# EAGLE library part 101-00271-82 (library Connectors)
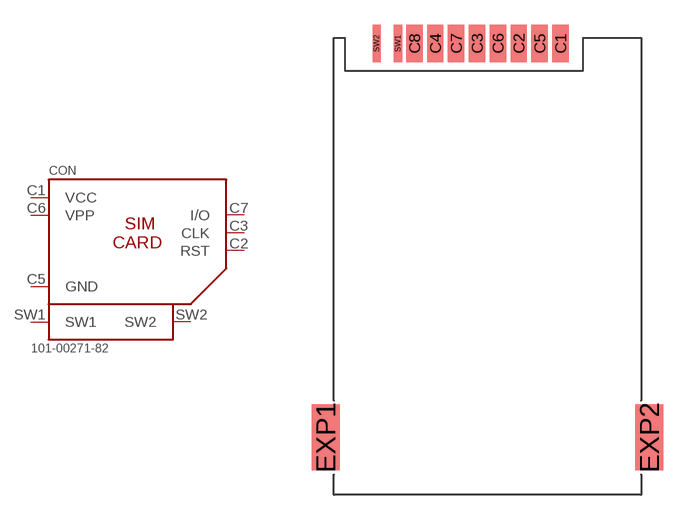
[diagram p0: symbol with the pads of 101-00271-82; footprint 101-00271-82]

Designator prefix CON

## 101-00271-82 (MN: Amphenol Commercial Products; MN_CODE: 101-00271-82; ORDER: DIGIKEY; ORDER_CODE: 101-00271-82-1-ND)  [101-00271-82]
C1  VCC
C2  RST
C3  CLK
C5  GND
C6  VPP
C7  I/O
SW1  SW1
SW2  SW2

## Footprint 101-00271-82 (pad centres in mm)
smd 1 x 2.3: C1 4.445,1.15; C2 1.905,1.15; C3 -0.635,1.15; C4 -3.175,1.15; C5 3.175,1.15; C6 0.635,1.15; C7 -1.905,1.15; C8 -4.445,1.15
smd 1.7 x 4: EXP1 -9.85,-22.85; EXP2 9.85,-22.85
smd 0.5 x 2.3: SW1 -5.445,1.15; SW2 -6.745,1.15